# Altium schematic symbol library fcu.SchLib: 11 symbols
Pins are listed as number, name and electrical type; pins without a type are passive.

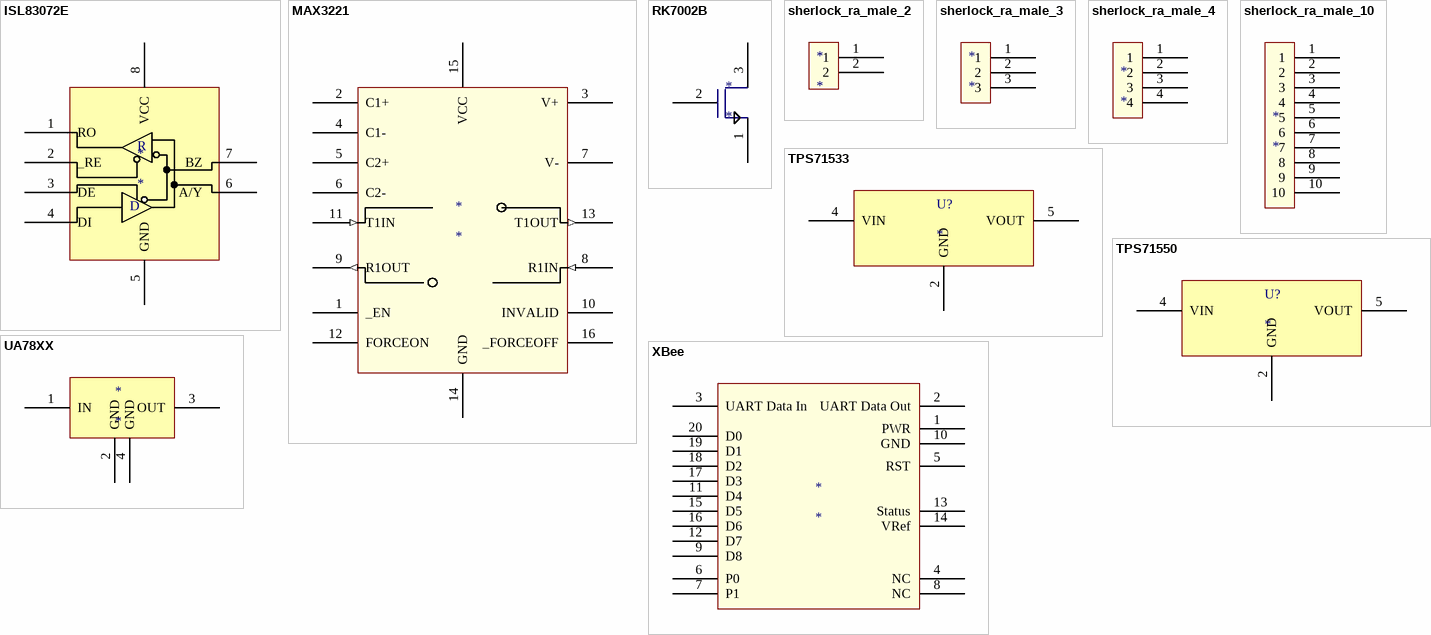
[diagram p0: symbols ISL83072E to XBee]

## ISL83072E
designator *
Part No.: ISL83072EIUZA-T; Vendor: Digikey; Price Est.: 4.23
footprint MSOP-8
pins: 1 RO, 2 _RE, 3 DE, 4 DI, 5 GND (power), 6 A/Y, 7 BZ, 8 VCC (power)
text: R; D

## MAX3221
designator *
pins: 1 _EN, 2 C1+, 3 V+, 4 C1-, 5 C2+, 6 C2-, 7 V-, 8 R1IN (in), 9 R1OUT (out), 10 INVALID, 11 T1IN (in), 12 FORCEON, 13 T1OUT (out), 14 GND, 15 VCC, 16 _FORCEOFF

## RK7002B
designator *
footprint SOT-23-RK7002B (SOT-23; 3 Leads; Body 3.0 x 2.6 mm, inc. leads (LxW max))
pins: 1 S, 2 G, 3 D

## sherlock_ra_male_2
designator *
footprint sherlock_ra_male_2
pins: 1, 2

## sherlock_ra_male_3
designator *
footprint sherlock_ra_male_3
pins: 1, 2, 3

## sherlock_ra_male_4
designator *
footprint sherlock_ra_male_4
pins: 1, 2, 3, 4

## sherlock_ra_male_10
designator *
footprint sherlock_ra_male_10
pins: 1, 2, 3, 4, 5, 6, 7, 8, 9, 10

## TPS71533
designator U?
Part No.: 296-12008-1-ND; Vendor: Digikey; Price Est.: 1.29
footprint SOT23-5 (SOT23, 5-Leads, Body 3.0x3.0mm (max), Pitch 0.95mm)
pins: 2 GND, 4 VIN, 5 VOUT

## TPS71550
designator U?
Part No.: 296-12008-1-ND; Vendor: Digikey; Price Est.: 1.29
footprint SOT23-5 (SOT23, 5-Leads, Body 3.0x3.0mm (max), Pitch 0.95mm)
pins: 2 GND, 4 VIN, 5 VOUT

## UA78XX
designator *
footprint SOT-223
pins: 1 IN, 2 GND, 3 OUT, 4 GND

## XBee
designator *
footprint XBee
pins: 1 PWR, 2 UART Data Out, 3 UART Data In, 4 NC, 5 RST, 6 P0, 7 P1, 8 NC, 9 D8, 10 GND, 11 D4, 12 D7, 13 Status, 14 VRef, 15 D5, 16 D6, 17 D3, 18 D2, 19 D1, 20 D0